# Altium integrated library Dallas Peripheral Real Time Clock.IntLib: 145 symbols (part 1 of 3)
Pins are listed as number, name and electrical type; pins without a type are passive.

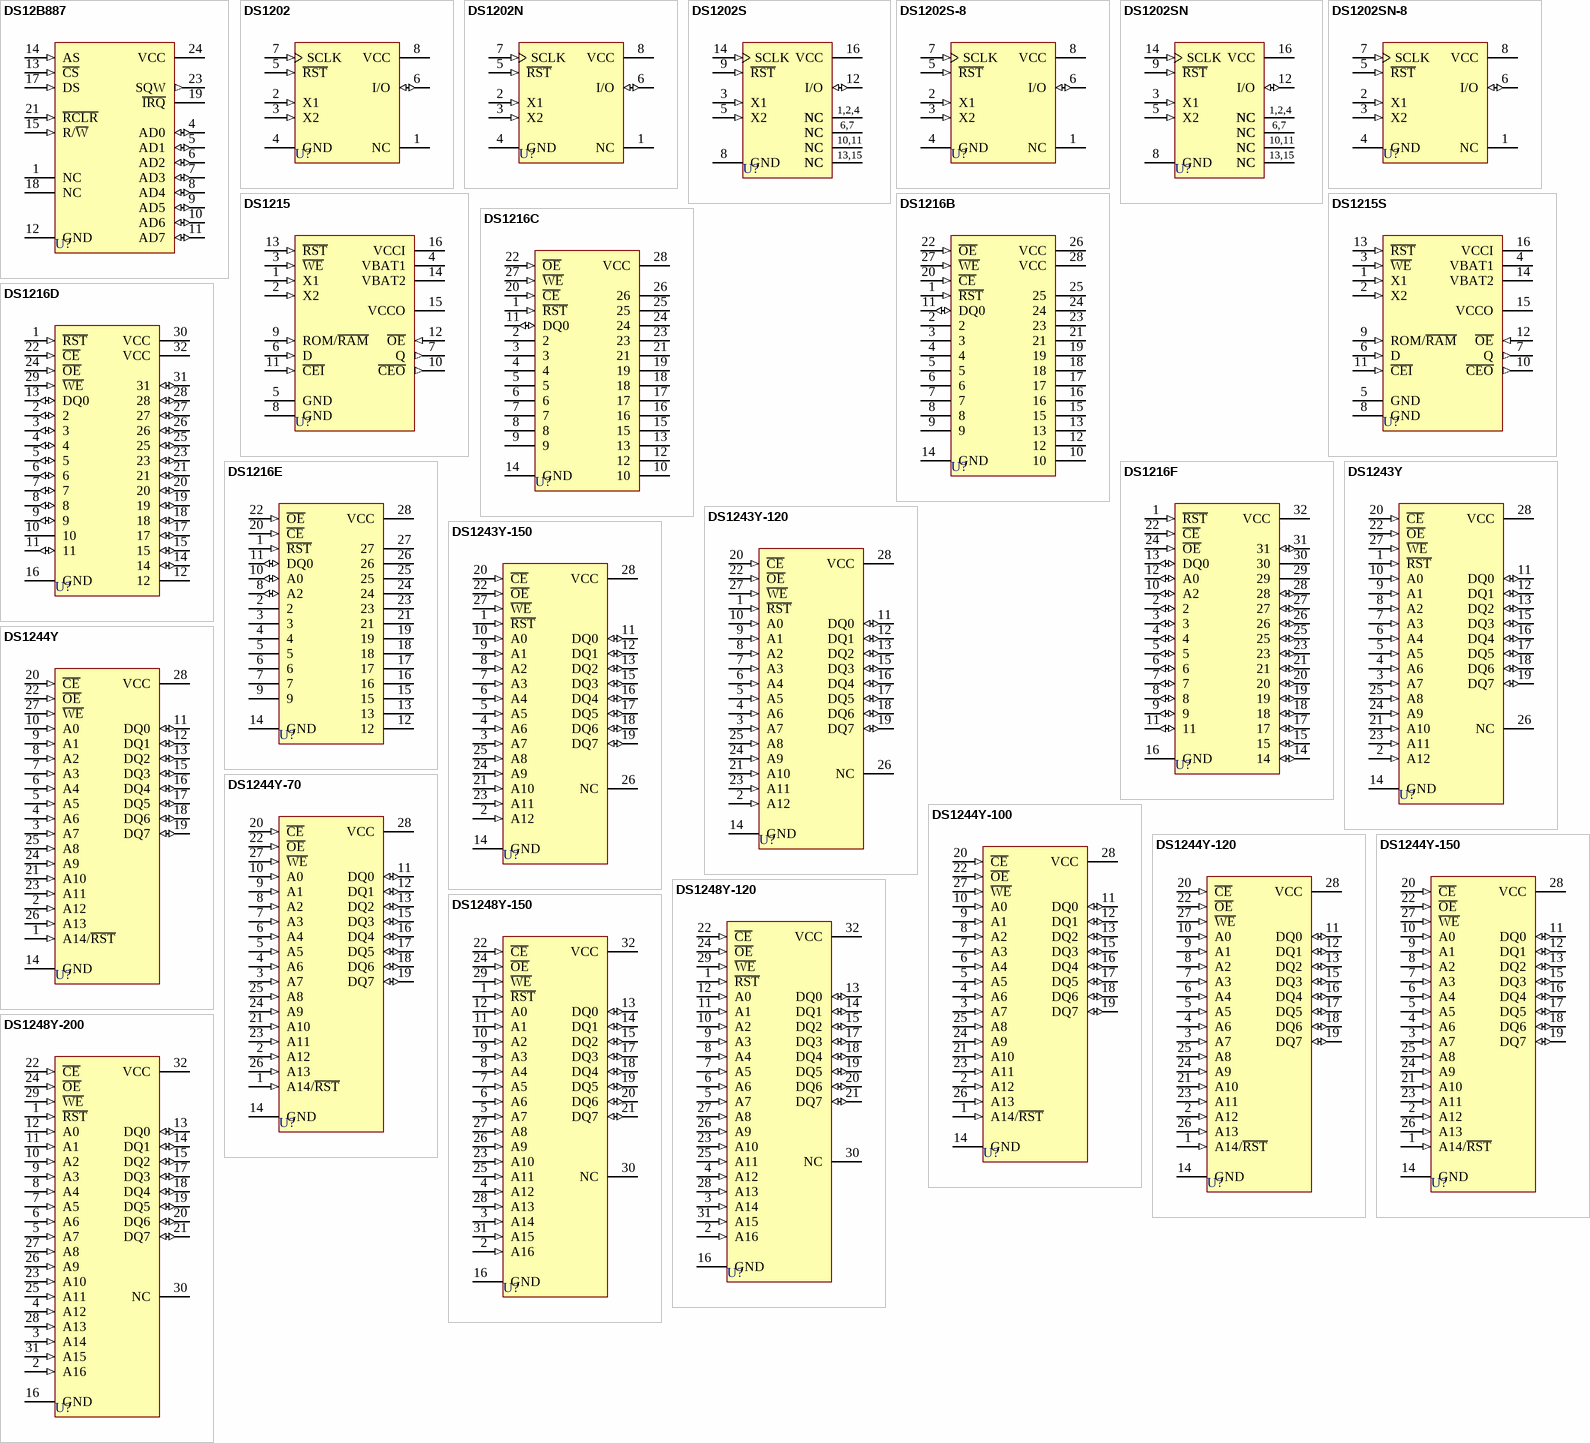
[diagram p0: symbols DS12B887 to DS1248Y-200]

## DS12B887
designator U?
Real-Time Clock; Note: Pin numbers 1, 2, 3, 16, 18, 20 and 22 are Not Connected (NC); Published: 13-Oct-2000; LatestRevisionDate: 17-Jul-2002; LatestRevisionNote: Re-released for DXP Platform.; DatasheetDocument: 8-Aug-1995; PackageReference: ENDIP24F; Publisher: Altium Limited; ComponentLink1Description: Manufacturer Link; ComponentLink1URL: http://www.maxim-ic.com/
footprint ENDIP24F (DIP; 24 Rectangular pins (5 Absent); Row Space 15.24 mm; Pitch 2.54 mm)
pins: 1 NC, 4 AD0 (io), 5 AD1 (io), 6 AD2 (io), 7 AD3 (io), 8 AD4 (io), 9 AD5 (io), 10 AD6 (io), 11 AD7 (io), 12 GND (power), 13 ~{CS} (in), 14 AS (in), 15 R/~{W} (in), 17 DS (in), 18 NC, 19 ~{IRQ} (oc), 21 ~{RCLR} (in), 23 SQW (out), 24 VCC (power)

## DS1202
designator U?
Serial Timekeeping Chip; PackageDocument: 1999; Note: Pin number 2 is Not Connected (NC); ComponentAvailability: Obsolete; Published: 13-Oct-2000; LatestRevisionDate: 06-Jun-2005; LatestRevisionNote: Stylized 3D Model Added.; DatasheetDocument: 8-May-1998; PackageReference: DIP8; Publisher: Altium Limited; ComponentLink1Description: Manufacturer Link; ComponentLink1URL: http://www.maxim-ic.com/
footprint DIP8 (DIP; 8 Leads; Row Spacing 7.62 mm; Pitch 2.54 mm)
3D model DIP8 (DIP; 8 Leads; Row Spacing 7.62 mm; Pitch 2.54 mm)
pins: 1 NC, 2 X1 (in), 3 X2 (in), 4 GND (power), 5 ~{RST} (in), 6 I/O (io), 7 SCLK (in), 8 VCC (power)

## DS1202N
designator U?
Serial Timekeeping Chip; PackageDocument: 1999; Note: Pin number 2 is Not Connected (NC); ComponentAvailability: Obsolete; Published: 13-Oct-2000; LatestRevisionDate: 06-Jun-2005; LatestRevisionNote: Stylized 3D Model Added.; DatasheetDocument: 8-May-1998; PackageReference: DIP8; Publisher: Altium Limited; ComponentLink1Description: Manufacturer Link; ComponentLink1URL: http://www.maxim-ic.com/
footprint DIP8 (DIP; 8 Leads; Row Spacing 7.62 mm; Pitch 2.54 mm)
3D model DIP8 (DIP; 8 Leads; Row Spacing 7.62 mm; Pitch 2.54 mm)
pins: 1 NC, 2 X1 (in), 3 X2 (in), 4 GND (power), 5 ~{RST} (in), 6 I/O (io), 7 SCLK (in), 8 VCC (power)

## DS1202S
designator U?
Serial Timekeeping Chip; Note: Pin numbers 1, 2, 4, 6, 7, 10, 11, 13, 15 and 16 are Not Connected (NC); ComponentAvailability: Obsolete; Published: 13-Oct-2000; LatestRevisionDate: 06-Jun-2005; LatestRevisionNote: Stylized 3D Model Added.; DatasheetDocument: 8-May-1998; PackageDocument: May-1998; PackageReference: SOIC16WB; Publisher: Altium Limited; ComponentLink1Description: Manufacturer Link; ComponentLink1URL: http://www.maxim-ic.com/
footprint SOIC16WB (Small Outline; 16 Leads; Body Width 7.5 mm; Pitch 1.27 mm)
3D model SOIC16WB (Small Outline; 16 Leads; Body Width 7.5 mm; Pitch 1.27 mm)
pins: 1 NC, 2 NC, 3 X1 (in), 4 NC, 5 X2 (in), 6 NC, 7 NC, 8 GND (power), 9 ~{RST} (in), 10 NC, 11 NC, 12 I/O (io), 13 NC, 14 SCLK (in), 15 NC, 16 VCC (power)
text: 1,2,4; 6,7; 10,11; 13,15

## DS1202S-8
designator U?
Serial Timekeeping Chip; PackageDocument: 1994; Note: Pin number 2 is Not Connected (NC); ComponentAvailability: Obsolete; Published: 13-Oct-2000; LatestRevisionDate: 06-Jun-2005; LatestRevisionNote: Stylized 3D Model Added.; DatasheetDocument: 8-May-1998; PackageReference: SOIC8WA; Publisher: Altium Limited; ComponentLink1Description: Manufacturer Link; ComponentLink1URL: http://www.maxim-ic.com/
footprint SOIC8WA (Small Outline; 8 Leads; Body Width 5.3 mm; Pitch 1.27 mm)
3D model SOIC8WA (Small Outline; 8 Leads; Body Width 5.3 mm; Pitch 1.27 mm)
pins: 1 NC, 2 X1 (in), 3 X2 (in), 4 GND (power), 5 ~{RST} (in), 6 I/O (io), 7 SCLK (in), 8 VCC (power)

## DS1202SN
designator U?
Serial Timekeeping Chip; Note: Pin numbers 1, 2, 4, 6, 7, 10, 11, 13, 15 and 16 are Not Connected (NC); ComponentAvailability: Obsolete; Published: 13-Oct-2000; LatestRevisionDate: 06-Jun-2005; LatestRevisionNote: Stylized 3D Model Added.; DatasheetDocument: 8-May-1998; PackageDocument: May-1998; PackageReference: SOIC16WB; Publisher: Altium Limited; ComponentLink1Description: Manufacturer Link; ComponentLink1URL: http://www.maxim-ic.com/
footprint SOIC16WB (Small Outline; 16 Leads; Body Width 7.5 mm; Pitch 1.27 mm)
3D model SOIC16WB (Small Outline; 16 Leads; Body Width 7.5 mm; Pitch 1.27 mm)
pins: 1 NC, 2 NC, 3 X1 (in), 4 NC, 5 X2 (in), 6 NC, 7 NC, 8 GND (power), 9 ~{RST} (in), 10 NC, 11 NC, 12 I/O (io), 13 NC, 14 SCLK (in), 15 NC, 16 VCC (power)
text: 1,2,4; 6,7; 10,11; 13,15

## DS1202SN-8
designator U?
Serial Timekeeping Chip; PackageDocument: 1994; Note: Pin number 2 is Not Connected (NC); ComponentAvailability: Obsolete; Published: 13-Oct-2000; LatestRevisionDate: 06-Jun-2005; LatestRevisionNote: Stylized 3D Model Added.; DatasheetDocument: 8-May-1998; PackageReference: SOIC8WA; Publisher: Altium Limited; ComponentLink1Description: Manufacturer Link; ComponentLink1URL: http://www.maxim-ic.com/
footprint SOIC8WA (Small Outline; 8 Leads; Body Width 5.3 mm; Pitch 1.27 mm)
3D model SOIC8WA (Small Outline; 8 Leads; Body Width 5.3 mm; Pitch 1.27 mm)
pins: 1 NC, 2 X1 (in), 3 X2 (in), 4 GND (power), 5 ~{RST} (in), 6 I/O (io), 7 SCLK (in), 8 VCC (power)

## DS1215
designator U?
Phantom Time Chip; PackageDocument: 1999; Published: 13-Oct-2000; LatestRevisionDate: 06-Jun-2005; LatestRevisionNote: Stylized 3D Model Added.; DatasheetDocument: 8-May-1998; PackageReference: DIP16; Publisher: Altium Limited; ComponentLink1Description: Manufacturer Link; ComponentLink1URL: http://www.maxim-ic.com/
footprint DIP16 (DIP; 16 Leads; Row Spacing 7.62 mm; Pitch 2.54 mm)
3D model DIP16 (DIP; 16 Leads; Row Spacing 7.62 mm; Pitch 2.54 mm)
pins: 1 X1 (in), 2 X2 (in), 3 ~{WE} (in), 4 VBAT1 (power), 5 GND (power), 6 D (in), 7 Q (out), 8 GND (power), 9 ROM/~{RAM} (in), 10 ~{CEO} (out), 11 ~{CEI} (in), 12 ~{OE} (in), 13 ~{RST} (in), 14 VBAT2 (power), 15 VCCO (power), 16 VCCI (power)

## DS1215S
designator U?
Phantom Time Chip; PackageDocument: 1994; Published: 13-Oct-2000; LatestRevisionDate: 06-Jun-2005; LatestRevisionNote: Stylized 3D Model Added.; DatasheetDocument: 8-May-1998; PackageReference: SOIC16WA; Publisher: Altium Limited; ComponentLink1Description: Manufacturer Link; ComponentLink1URL: http://www.maxim-ic.com/
footprint SOIC16WA (Small Outline; 16 Leads; Body Width 7.5 mm; Pitch 1.27 mm)
3D model SOIC16WA (Small Outline; 16 Leads; Body Width 7.5 mm; Pitch 1.27 mm)
pins: 1 X1 (in), 2 X2 (in), 3 ~{WE} (in), 4 VBAT1 (power), 5 GND (power), 6 D (in), 7 Q (out), 8 GND (power), 9 ROM/~{RAM} (in), 10 ~{CEO} (out), 11 ~{CEI} (in), 12 ~{OE} (in), 13 ~{RST} (in), 14 VBAT2 (power), 15 VCCO (power), 16 VCCI (power)

## DS1216B
designator U?
Smart-Watch/RAM 16K/64K; Published: 13-Oct-2000; LatestRevisionDate: 17-Jul-2002; LatestRevisionNote: Re-released for DXP Platform.; DatasheetDocument: 8-Jul-1999; PackageReference: ISDIP28A; Publisher: Altium Limited; ComponentLink1Description: Manufacturer Link; ComponentLink1URL: http://www.maxim-ic.com/; ComponentLink2Description: Datasheet; ComponentLink2URL: http://pdfserv.maxim-ic.com/en/ds/DS1216-DS1216H.pdf
footprint ISDIP28A (DIP; 28 Rectangular Pins; Row Space 15.24 mm; Pitch 2.54 mm)
pins: 1 ~{RST} (in), 2, 3, 4, 5, 6, 7, 8, 9, 10, 11 DQ0 (io), 12, 13, 14 GND (power), 15, 16, 17, 18, 19, 20 ~{CE} (in), 21, 22 ~{OE} (in), 23, 24, 25, 26 VCC (power), 27 ~{WE} (in), 28 VCC (power)

## DS1216C
designator U?
Smart-Watch/RAM 64K/256K; Published: 13-Oct-2000; LatestRevisionDate: 17-Jul-2002; LatestRevisionNote: Re-released for DXP Platform.; DatasheetDocument: 18-Mar-1999; PackageReference: ISDIP28A; Publisher: Altium Limited; ComponentLink1Description: Manufacturer Link; ComponentLink1URL: http://www.maxim-ic.com/; ComponentLink2Description: Datasheet; ComponentLink2URL: http://pdfserv.maxim-ic.com/en/ds/DS1216-DS1216H.pdf
footprint ISDIP28A (DIP; 28 Rectangular Pins; Row Space 15.24 mm; Pitch 2.54 mm)
pins: 1 ~{RST} (in), 2, 3, 4, 5, 6, 7, 8, 9, 10, 11 DQ0 (io), 12, 13, 14 GND (power), 15, 16, 17, 18, 19, 20 ~{CE} (in), 21, 22 ~{OE} (in), 23, 24, 25, 26 (power), 27 ~{WE} (in), 28 VCC (power)

## DS1216D
designator U?
Smart-Watch/RAM 256K/1M; Published: 13-Oct-2000; LatestRevisionDate: 17-Jul-2002; LatestRevisionNote: Re-released for DXP Platform.; DatasheetDocument: 27-Oct-1999; PackageDocument: Mar-1998; PackageReference: ISDIP32; Publisher: Altium Limited; ComponentLink1Description: Manufacturer Link; ComponentLink1URL: http://www.maxim-ic.com/; ComponentLink2Description: Datasheet; ComponentLink2URL: http://pdfserv.maxim-ic.com/en/ds/DS1216-DS1216H.pdf
footprint ISDIP32 (DIP; 32 Rectangular Pins; Row Space 15.24 mm; Pitch 2.54 mm)
pins: 1 ~{RST} (in), 2 (io), 3 (io), 4 (io), 5 (io), 6 (io), 7 (io), 8 (io), 9 (io), 10, 11 (io), 12, 13 DQ0 (io), 14 (io), 15 (io), 16 GND (power), 17 (io), 18 (io), 19 (io), 20 (io), 21 (io), 22 ~{CE} (in), 23 (io), 24 ~{OE} (in), 25 (io), 26 (io), 27 (io), 28 (io), 29 ~{WE} (in), 30 VCC (power), 31 (io), 32 VCC (power)

## DS1216E
designator U?
Smart-Watch/ROM 64K/256K; Published: 13-Oct-2000; LatestRevisionDate: 17-Jul-2002; LatestRevisionNote: Re-released for DXP Platform.; DatasheetDocument: 30-Jul-1999; PackageReference: ISDIP28A; Publisher: Altium Limited; ComponentLink1Description: Manufacturer Link; ComponentLink1URL: http://www.maxim-ic.com/; ComponentLink2Description: Datasheet; ComponentLink2URL: http://pdfserv.maxim-ic.com/en/ds/DS1216-DS1216H.pdf
footprint ISDIP28A (DIP; 28 Rectangular Pins; Row Space 15.24 mm; Pitch 2.54 mm)
pins: 1 ~{RST} (in), 2, 3, 4, 5, 6, 7, 8 A2 (io), 9, 10 A0 (io), 11 DQ0 (io), 12, 13, 14 GND (power), 15, 16, 17, 18, 19, 20 ~{CE} (in), 21, 22 ~{OE} (in), 23, 24, 25, 26 (power), 27, 28 VCC (power)

## DS1216F
designator U?
Smart-Watch/ROM 64K/256K/1M; Published: 13-Oct-2000; LatestRevisionDate: 17-Jul-2002; LatestRevisionNote: Re-released for DXP Platform.; DatasheetDocument: 10-Aug-1999; PackageDocument: Mar-1998; PackageReference: ISDIP32; Publisher: Altium Limited; ComponentLink1Description: Manufacturer Link; ComponentLink1URL: http://www.maxim-ic.com/; ComponentLink2Description: Datasheet; ComponentLink2URL: http://pdfserv.maxim-ic.com/en/ds/DS1216-DS1216H.pdf
footprint ISDIP32 (DIP; 32 Rectangular Pins; Row Space 15.24 mm; Pitch 2.54 mm)
pins: 1 ~{RST} (in), 2 (io), 3 (io), 4 (io), 5 (io), 6 (io), 7 (io), 8 (io), 9 (io), 10 A2 (io), 11 (io), 12 A0 (io), 13 DQ0 (io), 14 (io), 15 (io), 16 GND (power), 17 (io), 18 (io), 19 (io), 20 (io), 21 (io), 22 ~{CE} (in), 23 (io), 24 ~{OE} (in), 25 (io), 26 (io), 27 (io), 28 (io), 29, 30, 31 (io), 32 VCC (power)

## DS1243Y
designator U?
64K Nonvolatile SRAM with Phantom Clock; Published: 13-Oct-2000; LatestRevisionDate: 17-Jul-2002; LatestRevisionNote: PCB footprint, 'DIP-P28/Y1.2' replaced; Re-released for DXP Platform.; DatasheetDocument: 2-Aug-1999; PackageReference: ENDIP28; Publisher: Altium Limited; ComponentLink1Description: Manufacturer Link; ComponentLink1URL: http://www.maxim-ic.com/; ComponentLink2Description: Datasheet; ComponentLink2URL: http://pdfserv.maxim-ic.com/en/ds/DS1233M.pdf; ComponentLink3Description: Discontinuation Notice; ComponentLink3URL: http://www.maxim-ic.com/qa/pdfs/non-obsolescence-letter.pdf
footprint ENDIP28 (DIP; 28 Rectangular Pins; Row Space 15.24 mm; Pitch 2.54 mm)
pins: 1 ~{RST} (in), 2 A12 (in), 3 A7 (in), 4 A6 (in), 5 A5 (in), 6 A4 (in), 7 A3 (in), 8 A2 (in), 9 A1 (in), 10 A0 (in), 11 DQ0 (io), 12 DQ1 (io), 13 DQ2 (io), 14 GND (power), 15 DQ3 (io), 16 DQ4 (io), 17 DQ5 (io), 18 DQ6 (io), 19 DQ7 (io), 20 ~{CE} (in), 21 A10 (in), 22 ~{OE} (in), 23 A11 (in), 24 A9 (in), 25 A8 (in), 26 NC, 27 ~{WE} (in), 28 VCC (power)

## DS1243Y-120
designator U?
64K Nonvolatile SRAM with Phantom Clock; Published: 13-Oct-2000; LatestRevisionDate: 17-Jul-2002; LatestRevisionNote: PCB footprint, 'DIP-P28/Y1.2' replaced; Re-released for DXP Platform.; DatasheetDocument: 2-Aug-1999; PackageReference: ENDIP28; Publisher: Altium Limited; ComponentLink1Description: Manufacturer Link; ComponentLink1URL: http://www.maxim-ic.com/; ComponentLink2Description: Datasheet; ComponentLink2URL: http://pdfserv.maxim-ic.com/en/ds/DS1233M.pdf; ComponentLink3Description: Discontinuation Notice; ComponentLink3URL: http://www.maxim-ic.com/qa/pdfs/non-obsolescence-letter.pdf
footprint ENDIP28 (DIP; 28 Rectangular Pins; Row Space 15.24 mm; Pitch 2.54 mm)
pins: 1 ~{RST} (in), 2 A12 (in), 3 A7 (in), 4 A6 (in), 5 A5 (in), 6 A4 (in), 7 A3 (in), 8 A2 (in), 9 A1 (in), 10 A0 (in), 11 DQ0 (io), 12 DQ1 (io), 13 DQ2 (io), 14 GND (power), 15 DQ3 (io), 16 DQ4 (io), 17 DQ5 (io), 18 DQ6 (io), 19 DQ7 (io), 20 ~{CE} (in), 21 A10 (in), 22 ~{OE} (in), 23 A11 (in), 24 A9 (in), 25 A8 (in), 26 NC, 27 ~{WE} (in), 28 VCC (power)

## DS1243Y-150
designator U?
64K Nonvolatile SRAM with Phantom Clock; Published: 13-Oct-2000; LatestRevisionDate: 17-Jul-2002; LatestRevisionNote: PCB footprint, 'DIP-P28/Y1.2' replaced; Re-released for DXP Platform.; DatasheetDocument: 2-Aug-1999; PackageReference: ENDIP28; Publisher: Altium Limited; ComponentLink1Description: Manufacturer Link; ComponentLink1URL: http://www.maxim-ic.com/; ComponentLink2Description: Datasheet; ComponentLink2URL: http://pdfserv.maxim-ic.com/en/ds/DS1243-DS1243Y.pdf; ComponentLink3Description: Discontinuation Notice; ComponentLink3URL: http://www.maxim-ic.com/qa/pdfs/non-obsolescence-letter.pdf
footprint ENDIP28 (DIP; 28 Rectangular Pins; Row Space 15.24 mm; Pitch 2.54 mm)
pins: 1 ~{RST} (in), 2 A12 (in), 3 A7 (in), 4 A6 (in), 5 A5 (in), 6 A4 (in), 7 A3 (in), 8 A2 (in), 9 A1 (in), 10 A0 (in), 11 DQ0 (io), 12 DQ1 (io), 13 DQ2 (io), 14 GND (power), 15 DQ3 (io), 16 DQ4 (io), 17 DQ5 (io), 18 DQ6 (io), 19 DQ7 (io), 20 ~{CE} (in), 21 A10 (in), 22 ~{OE} (in), 23 A11 (in), 24 A9 (in), 25 A8 (in), 26 NC, 27 ~{WE} (in), 28 VCC (power)

## DS1244Y
designator U?
256K Nonvolatile SRAM with Phantom Clock; Published: 13-Oct-2000; LatestRevisionDate: 17-Jul-2002; LatestRevisionNote: PCB footprint, 'DIP-P28/Y1.2' replaced; Re-released for DXP Platform.; DatasheetDocument: 10-Aug-1999; PackageReference: ENDIP28C; Publisher: Altium Limited; ComponentLink1Description: Manufacturer Link; ComponentLink1URL: http://www.maxim-ic.com/; ComponentLink2Description: Datasheet; ComponentLink2URL: http://pdfserv.maxim-ic.com/en/ds/DS1233M.pdf
footprint ENDIP28C (DIP; 28 Rectangular Pins; Row Space 15.24 mm; Pitch 2.54 mm)
pins: 1 A14/~{RST} (in), 2 A12 (in), 3 A7 (in), 4 A6 (in), 5 A5 (in), 6 A4 (in), 7 A3 (in), 8 A2 (in), 9 A1 (in), 10 A0 (in), 11 DQ0 (io), 12 DQ1 (io), 13 DQ2 (io), 14 GND (power), 15 DQ3 (io), 16 DQ4 (io), 17 DQ5 (io), 18 DQ6 (io), 19 DQ7 (io), 20 ~{CE} (in), 21 A10 (in), 22 ~{OE} (in), 23 A11 (in), 24 A9 (in), 25 A8 (in), 26 A13 (in), 27 ~{WE} (in), 28 VCC (power)

## DS1244Y-70
designator U?
256K Nonvolatile SRAM with Phantom Clock; Published: 13-Oct-2000; LatestRevisionDate: 17-Jul-2002; LatestRevisionNote: PCB footprint, 'DIP-P28/Y1.2' replaced; Re-released for DXP Platform.; DatasheetDocument: 11-Dec-1998; PackageReference: ENDIP28C; Publisher: Altium Limited; ComponentLink1Description: Manufacturer Link; ComponentLink1URL: http://www.maxim-ic.com/; ComponentLink2Description: Datasheet; ComponentLink2URL: http://pdfserv.maxim-ic.com/en/ds/DS1244-DS1244P.pdf
footprint ENDIP28C (DIP; 28 Rectangular Pins; Row Space 15.24 mm; Pitch 2.54 mm)
pins: 1 A14/~{RST} (in), 2 A12 (in), 3 A7 (in), 4 A6 (in), 5 A5 (in), 6 A4 (in), 7 A3 (in), 8 A2 (in), 9 A1 (in), 10 A0 (in), 11 DQ0 (io), 12 DQ1 (io), 13 DQ2 (io), 14 GND (power), 15 DQ3 (io), 16 DQ4 (io), 17 DQ5 (io), 18 DQ6 (io), 19 DQ7 (io), 20 ~{CE} (in), 21 A10 (in), 22 ~{OE} (in), 23 A11 (in), 24 A9 (in), 25 A8 (in), 26 A13 (in), 27 ~{WE} (in), 28 VCC (power)

## DS1244Y-100
designator U?
256K Nonvolatile SRAM with Phantom Clock; Published: 13-Oct-2000; LatestRevisionDate: 17-Jul-2002; LatestRevisionNote: PCB footprint, 'DIP-P28/Y1.2' replaced; Re-released for DXP Platform.; DatasheetDocument: 11-Dec-1998; PackageReference: ENDIP28C; Publisher: Altium Limited; ComponentLink1Description: Manufacturer Link; ComponentLink1URL: http://www.maxim-ic.com/; ComponentLink2Description: Datasheet; ComponentLink2URL: http://pdfserv.maxim-ic.com/en/ds/DS1233M.pdf
footprint ENDIP28C (DIP; 28 Rectangular Pins; Row Space 15.24 mm; Pitch 2.54 mm)
pins: 1 A14/~{RST} (in), 2 A12 (in), 3 A7 (in), 4 A6 (in), 5 A5 (in), 6 A4 (in), 7 A3 (in), 8 A2 (in), 9 A1 (in), 10 A0 (in), 11 DQ0 (io), 12 DQ1 (io), 13 DQ2 (io), 14 GND (power), 15 DQ3 (io), 16 DQ4 (io), 17 DQ5 (io), 18 DQ6 (io), 19 DQ7 (io), 20 ~{CE} (in), 21 A10 (in), 22 ~{OE} (in), 23 A11 (in), 24 A9 (in), 25 A8 (in), 26 A13 (in), 27 ~{WE} (in), 28 VCC (power)

## DS1244Y-120
designator U?
256K Nonvolatile SRAM with Phantom Clock; Published: 13-Oct-2000; LatestRevisionDate: 17-Jul-2002; LatestRevisionNote: PCB footprint, 'DIP-P28/Y1.2' replaced; Re-released for DXP Platform.; DatasheetDocument: 10-Aug-1999; PackageReference: ENDIP28C; Publisher: Altium Limited; ComponentLink1Description: Manufacturer Link; ComponentLink1URL: http://www.maxim-ic.com/; ComponentLink2Description: Datasheet; ComponentLink2URL: http://pdfserv.maxim-ic.com/en/ds/DS1233M.pdf
footprint ENDIP28C (DIP; 28 Rectangular Pins; Row Space 15.24 mm; Pitch 2.54 mm)
pins: 1 A14/~{RST} (in), 2 A12 (in), 3 A7 (in), 4 A6 (in), 5 A5 (in), 6 A4 (in), 7 A3 (in), 8 A2 (in), 9 A1 (in), 10 A0 (in), 11 DQ0 (io), 12 DQ1 (io), 13 DQ2 (io), 14 GND (power), 15 DQ3 (io), 16 DQ4 (io), 17 DQ5 (io), 18 DQ6 (io), 19 DQ7 (io), 20 ~{CE} (in), 21 A10 (in), 22 ~{OE} (in), 23 A11 (in), 24 A9 (in), 25 A8 (in), 26 A13 (in), 27 ~{WE} (in), 28 VCC (power)

## DS1244Y-150
designator U?
256K Nonvolatile SRAM with Phantom Clock; Published: 13-Oct-2000; LatestRevisionDate: 17-Jul-2002; LatestRevisionNote: PCB footprint, 'DIP-P28/Y1.2' replaced; Re-released for DXP Platform.; DatasheetDocument: 10-Aug-1999; PackageReference: ENDIP28C; Publisher: Altium Limited; ComponentLink1Description: Manufacturer Link; ComponentLink1URL: http://www.maxim-ic.com/; ComponentLink2Description: Datasheet; ComponentLink2URL: http://pdfserv.maxim-ic.com/en/ds/DS1244-DS1244P.pdf
footprint ENDIP28C (DIP; 28 Rectangular Pins; Row Space 15.24 mm; Pitch 2.54 mm)
pins: 1 A14/~{RST} (in), 2 A12 (in), 3 A7 (in), 4 A6 (in), 5 A5 (in), 6 A4 (in), 7 A3 (in), 8 A2 (in), 9 A1 (in), 10 A0 (in), 11 DQ0 (io), 12 DQ1 (io), 13 DQ2 (io), 14 GND (power), 15 DQ3 (io), 16 DQ4 (io), 17 DQ5 (io), 18 DQ6 (io), 19 DQ7 (io), 20 ~{CE} (in), 21 A10 (in), 22 ~{OE} (in), 23 A11 (in), 24 A9 (in), 25 A8 (in), 26 A13 (in), 27 ~{WE} (in), 28 VCC (power)

## DS1248Y-120
designator U?
1024K Nonvolatile SRAM with Phantom Clock; Note: Pin number 1 is Not Connected (NC); Published: 13-Oct-2000; LatestRevisionDate: 17-Jul-2002; LatestRevisionNote: PCB footprint, 'DIP-P32/Y1.2' replaced; Re-released for DXP Platform.; DatasheetDocument: 27-Jul-1999; PackageReference: ENDIP32A; Publisher: Altium Limited; ComponentLink1Description: Manufacturer Link; ComponentLink1URL: http://www.maxim-ic.com/; ComponentLink2Description: Datasheet; ComponentLink2URL: http://pdfserv.maxim-ic.com/en/ds/DS1233M.pdf; ComponentLink3Description: Discontinuation Notice; ComponentLink3URL: http://www.maxim-ic.com/qa/pdfs/non-obsolescence-letter.pdf
footprint ENDIP32A (DIP; 32 Rectangular Pins; Row Space 15.24 mm; Pitch 2.54 mm)
pins: 1 ~{RST} (in), 2 A16 (in), 3 A14 (in), 4 A12 (in), 5 A7 (in), 6 A6 (in), 7 A5 (in), 8 A4 (in), 9 A3 (in), 10 A2 (in), 11 A1 (in), 12 A0 (in), 13 DQ0 (io), 14 DQ1 (io), 15 DQ2 (io), 16 GND (power), 17 DQ3 (io), 18 DQ4 (io), 19 DQ5 (io), 20 DQ6 (io), 21 DQ7 (io), 22 ~{CE} (in), 23 A10 (in), 24 ~{OE} (in), 25 A11 (in), 26 A9 (in), 27 A8 (in), 28 A13 (in), 29 ~{WE} (in), 30 NC, 31 A15 (in), 32 VCC (power)

## DS1248Y-150
designator U?
1024K Nonvolatile SRAM with Phantom Clock; Note: Pin number 1 is Not Connected (NC); Published: 13-Oct-2000; LatestRevisionDate: 17-Jul-2002; LatestRevisionNote: PCB footprint, 'DIP-P32/Y1.2' replaced; Re-released for DXP Platform.; DatasheetDocument: 27-Jul-1999; PackageReference: ENDIP32A; Publisher: Altium Limited; ComponentLink1Description: Manufacturer Link; ComponentLink1URL: http://www.maxim-ic.com/; ComponentLink2Description: Datasheet; ComponentLink2URL: http://pdfserv.maxim-ic.com/en/ds/DS1233M.pdf; ComponentLink3Description: Discontinuation Notice; ComponentLink3URL: http://www.maxim-ic.com/qa/pdfs/non-obsolescence-letter.pdf
footprint ENDIP32A (DIP; 32 Rectangular Pins; Row Space 15.24 mm; Pitch 2.54 mm)
pins: 1 ~{RST} (in), 2 A16 (in), 3 A14 (in), 4 A12 (in), 5 A7 (in), 6 A6 (in), 7 A5 (in), 8 A4 (in), 9 A3 (in), 10 A2 (in), 11 A1 (in), 12 A0 (in), 13 DQ0 (io), 14 DQ1 (io), 15 DQ2 (io), 16 GND (power), 17 DQ3 (io), 18 DQ4 (io), 19 DQ5 (io), 20 DQ6 (io), 21 DQ7 (io), 22 ~{CE} (in), 23 A10 (in), 24 ~{OE} (in), 25 A11 (in), 26 A9 (in), 27 A8 (in), 28 A13 (in), 29 ~{WE} (in), 30 NC, 31 A15 (in), 32 VCC (power)

## DS1248Y-200
designator U?
1024K Nonvolatile SRAM with Phantom Clock; Note: Pin number 1 is Not Connected (NC); Published: 13-Oct-2000; LatestRevisionDate: 17-Jul-2002; LatestRevisionNote: PCB footprint, 'DIP-P32/Y1.2' replaced; Re-released for DXP Platform.; DatasheetDocument: 27-Jul-1999; PackageReference: ENDIP32A; Publisher: Altium Limited; ComponentLink1Description: Manufacturer Link; ComponentLink1URL: http://www.maxim-ic.com/; ComponentLink2Description: Datasheet; ComponentLink2URL: http://pdfserv.maxim-ic.com/en/ds/DS1248-DS1248P.pdf; ComponentLink3Description: Discontinuation Notice; ComponentLink3URL: http://www.maxim-ic.com/qa/pdfs/non-obsolescence-letter.pdf
footprint ENDIP32A (DIP; 32 Rectangular Pins; Row Space 15.24 mm; Pitch 2.54 mm)
pins: 1 ~{RST} (in), 2 A16 (in), 3 A14 (in), 4 A12 (in), 5 A7 (in), 6 A6 (in), 7 A5 (in), 8 A4 (in), 9 A3 (in), 10 A2 (in), 11 A1 (in), 12 A0 (in), 13 DQ0 (io), 14 DQ1 (io), 15 DQ2 (io), 16 GND (power), 17 DQ3 (io), 18 DQ4 (io), 19 DQ5 (io), 20 DQ6 (io), 21 DQ7 (io), 22 ~{CE} (in), 23 A10 (in), 24 ~{OE} (in), 25 A11 (in), 26 A9 (in), 27 A8 (in), 28 A13 (in), 29 ~{WE} (in), 30 NC, 31 A15 (in), 32 VCC (power)

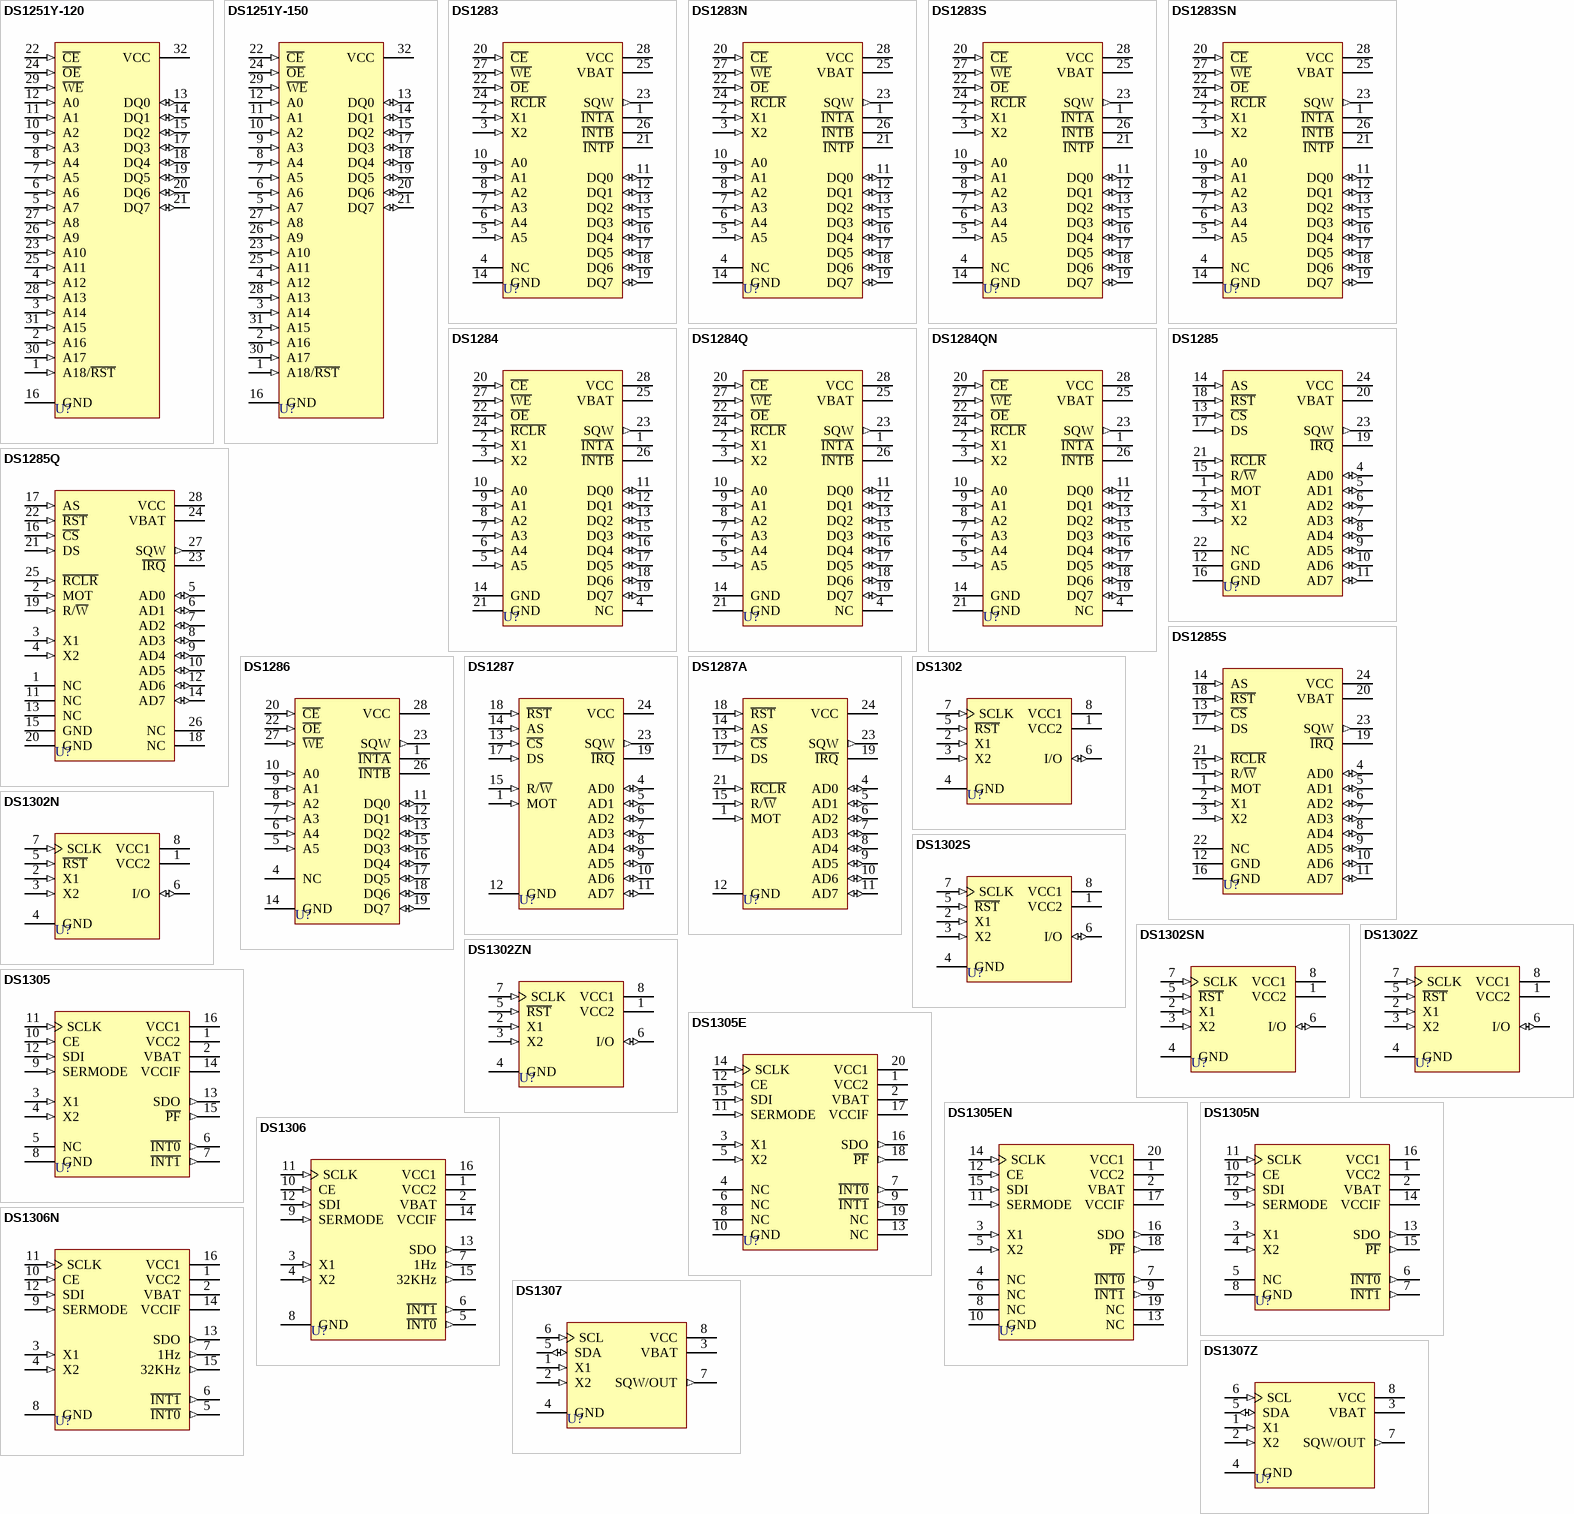
[diagram p1: symbols DS1251Y-120 to DS1307Z]

## DS1251Y-120
designator U?
2096K NV SRAM with Phantom Clock; Published: 13-Oct-2000; LatestRevisionDate: 17-Jul-2002; LatestRevisionNote: PCB footprint, 'DIP-P32/Y1.2' replaced; Re-released for DXP Platform.; DatasheetDocument: 27-Jul-1999; PackageReference: ENDIP32A; Publisher: Altium Limited; ComponentLink1Description: Manufacturer Link; ComponentLink1URL: http://www.maxim-ic.com/; ComponentLink2Description: Datasheet; ComponentLink2URL: http://pdfserv.maxim-ic.com/en/ds/DS1233M.pdf; ComponentLink3Description: Discontinuation Notice; ComponentLink3URL: http://www.maxim-ic.com/qa/pdfs/non-obsolescence-letter.pdf
footprint ENDIP32A (DIP; 32 Rectangular Pins; Row Space 15.24 mm; Pitch 2.54 mm)
pins: 1 A18/~{RST} (in), 2 A16 (in), 3 A14 (in), 4 A12 (in), 5 A7 (in), 6 A6 (in), 7 A5 (in), 8 A4 (in), 9 A3 (in), 10 A2 (in), 11 A1 (in), 12 A0 (in), 13 DQ0 (io), 14 DQ1 (io), 15 DQ2 (io), 16 GND (power), 17 DQ3 (io), 18 DQ4 (io), 19 DQ5 (io), 20 DQ6 (io), 21 DQ7 (io), 22 ~{CE} (in), 23 A10 (in), 24 ~{OE} (in), 25 A11 (in), 26 A9 (in), 27 A8 (in), 28 A13 (in), 29 ~{WE} (in), 30 A17 (in), 31 A15 (in), 32 VCC (power)

## DS1251Y-150
designator U?
2096K NV SRAM with Phantom Clock; Published: 13-Oct-2000; LatestRevisionDate: 17-Jul-2002; LatestRevisionNote: PCB footprint, 'DIP-P32/Y1.2' replaced; Re-released for DXP Platform.; DatasheetDocument: 27-Jul-1999; PackageReference: ENDIP32A; Publisher: Altium Limited; ComponentLink1Description: Manufacturer Link; ComponentLink1URL: http://www.maxim-ic.com/; ComponentLink2Description: Datasheet; ComponentLink2URL: http://pdfserv.maxim-ic.com/en/ds/DS1251-DS1251P.pdf; ComponentLink3Description: Discontinuation Notice; ComponentLink3URL: http://www.maxim-ic.com/qa/pdfs/non-obsolescence-letter.pdf
footprint ENDIP32A (DIP; 32 Rectangular Pins; Row Space 15.24 mm; Pitch 2.54 mm)
pins: 1 A18/~{RST} (in), 2 A16 (in), 3 A14 (in), 4 A12 (in), 5 A7 (in), 6 A6 (in), 7 A5 (in), 8 A4 (in), 9 A3 (in), 10 A2 (in), 11 A1 (in), 12 A0 (in), 13 DQ0 (io), 14 DQ1 (io), 15 DQ2 (io), 16 GND (power), 17 DQ3 (io), 18 DQ4 (io), 19 DQ5 (io), 20 DQ6 (io), 21 DQ7 (io), 22 ~{CE} (in), 23 A10 (in), 24 ~{OE} (in), 25 A11 (in), 26 A9 (in), 27 A8 (in), 28 A13 (in), 29 ~{WE} (in), 30 A17 (in), 31 A15 (in), 32 VCC (power)

## DS1283
designator U?
Watchdog Timekeeper Chip; PackageDocument: 1999; Note: Pin number 4 is Not Connected (NC); Published: 13-Oct-2000; LatestRevisionDate: 06-Jun-2005; LatestRevisionNote: Stylized 3D Model Added.; DatasheetDocument: 27-Feb-1998; PackageReference: DIP28W; Publisher: Altium Limited; ComponentLink1Description: Manufacturer Link; ComponentLink1URL: http://www.maxim-ic.com/; ComponentLink2Description: Discontinuation Notice; ComponentLink2URL: http://www.maxim-ic.com/qa/pdfs/non-obsolescence-letter.pdf
footprint DIP28W (DIP; 28 Leads; Row Spacing 15.24 mm; Pitch 2.54 mm)
3D model DIP28W (DIP; 28 Leads; Row Spacing 15.24 mm; Pitch 2.54 mm)
pins: 1 ~{INTA} (oc), 2 X1 (in), 3 X2 (in), 4 NC, 5 A5 (in), 6 A4 (in), 7 A3 (in), 8 A2 (in), 9 A1 (in), 10 A0 (in), 11 DQ0 (io), 12 DQ1 (io), 13 DQ2 (io), 14 GND (power), 15 DQ3 (io), 16 DQ4 (io), 17 DQ5 (io), 18 DQ6 (io), 19 DQ7 (io), 20 ~{CE} (in), 21 ~{INTP} (oc), 22 ~{OE} (in), 23 SQW (out), 24 ~{RCLR} (in), 25 VBAT (power), 26 ~{INTB} (oc), 27 ~{WE} (in), 28 VCC (power)

## DS1283N
designator U?
Watchdog Timekeeper Chip; PackageDocument: 1999; Note: Pin number 4 is Not Connected (NC); Published: 13-Oct-2000; LatestRevisionDate: 06-Jun-2005; LatestRevisionNote: Stylized 3D Model Added.; DatasheetDocument: 27-Feb-1998; PackageReference: DIP28W; Publisher: Altium Limited; ComponentLink1Description: Manufacturer Link; ComponentLink1URL: http://www.maxim-ic.com/; ComponentLink2Description: Discontinuation Notice; ComponentLink2URL: http://www.maxim-ic.com/qa/pdfs/non-obsolescence-letter.pdf
footprint DIP28W (DIP; 28 Leads; Row Spacing 15.24 mm; Pitch 2.54 mm)
3D model DIP28W (DIP; 28 Leads; Row Spacing 15.24 mm; Pitch 2.54 mm)
pins: 1 ~{INTA} (oc), 2 X1 (in), 3 X2 (in), 4 NC, 5 A5 (in), 6 A4 (in), 7 A3 (in), 8 A2 (in), 9 A1 (in), 10 A0 (in), 11 DQ0 (io), 12 DQ1 (io), 13 DQ2 (io), 14 GND (power), 15 DQ3 (io), 16 DQ4 (io), 17 DQ5 (io), 18 DQ6 (io), 19 DQ7 (io), 20 ~{CE} (in), 21 ~{INTP} (oc), 22 ~{OE} (in), 23 SQW (out), 24 ~{RCLR} (in), 25 VBAT (power), 26 ~{INTB} (oc), 27 ~{WE} (in), 28 VCC (power)

## DS1283S
designator U?
Watchdog Timekeeper Chip; PackageDocument: 1999; Note: Pin number 4 is Not Connected (NC); Published: 13-Oct-2000; LatestRevisionDate: 06-Jun-2005; LatestRevisionNote: Stylized 3D Model Added.; DatasheetDocument: 27-Feb-1998; PackageReference: SOIC28VW; Publisher: Altium Limited; ComponentLink1Description: Manufacturer Link; ComponentLink1URL: http://www.maxim-ic.com/; ComponentLink2Description: Discontinuation Notice; ComponentLink2URL: http://www.maxim-ic.com/qa/pdfs/non-obsolescence-letter.pdf
footprint SOIC28VW (Small Outline; 28 Leads; Body Width 8.7 mm; Pitch 1.27 mm)
3D model SOIC28VW (Small Outline; 28 Leads; Body Width 8.7 mm; Pitch 1.27 mm)
pins: 1 ~{INTA} (oc), 2 X1 (in), 3 X2 (in), 4 NC, 5 A5 (in), 6 A4 (in), 7 A3 (in), 8 A2 (in), 9 A1 (in), 10 A0 (in), 11 DQ0 (io), 12 DQ1 (io), 13 DQ2 (io), 14 GND (power), 15 DQ3 (io), 16 DQ4 (io), 17 DQ5 (io), 18 DQ6 (io), 19 DQ7 (io), 20 ~{CE} (in), 21 ~{INTP} (oc), 22 ~{OE} (in), 23 SQW (out), 24 ~{RCLR} (in), 25 VBAT (power), 26 ~{INTB} (oc), 27 ~{WE} (in), 28 VCC (power)

## DS1283SN
designator U?
Watchdog Timekeeper Chip; PackageDocument: 1999; Note: Pin number 4 is Not Connected (NC); Published: 13-Oct-2000; LatestRevisionDate: 06-Jun-2005; LatestRevisionNote: Stylized 3D Model Added.; DatasheetDocument: 27-Feb-1998; PackageReference: SOIC28VW; Publisher: Altium Limited; ComponentLink1Description: Manufacturer Link; ComponentLink1URL: http://www.maxim-ic.com/; ComponentLink2Description: Discontinuation Notice; ComponentLink2URL: http://www.maxim-ic.com/qa/pdfs/non-obsolescence-letter.pdf
footprint SOIC28VW (Small Outline; 28 Leads; Body Width 8.7 mm; Pitch 1.27 mm)
3D model SOIC28VW (Small Outline; 28 Leads; Body Width 8.7 mm; Pitch 1.27 mm)
pins: 1 ~{INTA} (oc), 2 X1 (in), 3 X2 (in), 4 NC, 5 A5 (in), 6 A4 (in), 7 A3 (in), 8 A2 (in), 9 A1 (in), 10 A0 (in), 11 DQ0 (io), 12 DQ1 (io), 13 DQ2 (io), 14 GND (power), 15 DQ3 (io), 16 DQ4 (io), 17 DQ5 (io), 18 DQ6 (io), 19 DQ7 (io), 20 ~{CE} (in), 21 ~{INTP} (oc), 22 ~{OE} (in), 23 SQW (out), 24 ~{RCLR} (in), 25 VBAT (power), 26 ~{INTB} (oc), 27 ~{WE} (in), 28 VCC (power)

## DS1284
designator U?
Watchdog Timekeeping Chip; PackageDocument: 1999; Note: Pin number 4 is Not Connected (NC); Published: 13-Oct-2000; LatestRevisionDate: 06-Jun-2005; LatestRevisionNote: Stylized 3D Model Added.; DatasheetDocument: 27-Jul-1999; PackageReference: DIP28W; Publisher: Altium Limited; ComponentLink1Description: Manufacturer Link; ComponentLink1URL: http://www.maxim-ic.com/; ComponentLink2Description: Datasheet; ComponentLink2URL: http://pdfserv.maxim-ic.com/en/ds/DS1284.pdf; ComponentLink3Description: Discontinuation Notice; ComponentLink3URL: http://www.maxim-ic.com/qa/pdfs/non-obsolescence-letter.pdf
footprint DIP28W (DIP; 28 Leads; Row Spacing 15.24 mm; Pitch 2.54 mm)
3D model DIP28W (DIP; 28 Leads; Row Spacing 15.24 mm; Pitch 2.54 mm)
pins: 1 ~{INTA} (oc), 2 X1 (in), 3 X2 (in), 4 NC, 5 A5 (in), 6 A4 (in), 7 A3 (in), 8 A2 (in), 9 A1 (in), 10 A0 (in), 11 DQ0 (io), 12 DQ1 (io), 13 DQ2 (io), 14 GND (power), 15 DQ3 (io), 16 DQ4 (io), 17 DQ5 (io), 18 DQ6 (io), 19 DQ7 (io), 20 ~{CE} (in), 21 GND (power), 22 ~{OE} (in), 23 SQW (out), 24 ~{RCLR} (in), 25 VBAT (power), 26 ~{INTB} (oc), 27 ~{WE} (in), 28 VCC (power)

## DS1284Q
designator U?
Watchdog Timekeeping Chip; Note: Pin number 4 is Not Connected (NC); Published: 13-Oct-2000; LatestRevisionDate: 06-Jun-2005; LatestRevisionNote: Stylized 3D Model Added.; DatasheetDocument: 27-Jul-1999; PackageDocument: Jul-1999; PackageReference: PLCC28A; Publisher: Altium Limited; Code_IPC: PLCC-28; ComponentLink1Description: Manufacturer Link; ComponentLink1URL: http://www.maxim-ic.com/; ComponentLink2Description: Datasheet; ComponentLink2URL: http://pdfserv.maxim-ic.com/en/ds/DS1284.pdf; ComponentLink3Description: Discontinuation Notice; ComponentLink3URL: http://www.maxim-ic.com/qa/pdfs/non-obsolescence-letter.pdf
footprint PLCC28A (Leaded Chip Carrier; 28 Leads; Body 11.5 x 11.5 mm)
3D model DS1284-PLCC28A (Leaded Chip Carrier; 28 Leads; Body 11.5 x 11.5 mm)
pins: 1 ~{INTA} (oc), 2 X1 (in), 3 X2 (in), 4 NC, 5 A5 (in), 6 A4 (in), 7 A3 (in), 8 A2 (in), 9 A1 (in), 10 A0 (in), 11 DQ0 (io), 12 DQ1 (io), 13 DQ2 (io), 14 GND (power), 15 DQ3 (io), 16 DQ4 (io), 17 DQ5 (io), 18 DQ6 (io), 19 DQ7 (io), 20 ~{CE} (in), 21 GND (power), 22 ~{OE} (in), 23 SQW (out), 24 ~{RCLR} (in), 25 VBAT (power), 26 ~{INTB} (oc), 27 ~{WE} (in), 28 VCC (power)

## DS1284QN
designator U?
Watchdog Timekeeping Chip; Note: Pin number 4 is Not Connected (NC); Published: 13-Oct-2000; LatestRevisionDate: 06-Jun-2005; LatestRevisionNote: Stylized 3D Model Added.; DatasheetDocument: 27-Jul-1999; PackageDocument: Jul-1999; PackageReference: PLCC28A; Publisher: Altium Limited; Code_IPC: PLCC-28; ComponentLink1Description: Manufacturer Link; ComponentLink1URL: http://www.maxim-ic.com/; ComponentLink2Description: Datasheet; ComponentLink2URL: http://pdfserv.maxim-ic.com/en/ds/DS1284.pdf; ComponentLink3Description: Discontinuation Notice; ComponentLink3URL: http://www.maxim-ic.com/qa/pdfs/non-obsolescence-letter.pdf
footprint PLCC28A (Leaded Chip Carrier; 28 Leads; Body 11.5 x 11.5 mm)
3D model DS1284-PLCC28A (Leaded Chip Carrier; 28 Leads; Body 11.5 x 11.5 mm)
pins: 1 ~{INTA} (oc), 2 X1 (in), 3 X2 (in), 4 NC, 5 A5 (in), 6 A4 (in), 7 A3 (in), 8 A2 (in), 9 A1 (in), 10 A0 (in), 11 DQ0 (io), 12 DQ1 (io), 13 DQ2 (io), 14 GND (power), 15 DQ3 (io), 16 DQ4 (io), 17 DQ5 (io), 18 DQ6 (io), 19 DQ7 (io), 20 ~{CE} (in), 21 GND (power), 22 ~{OE} (in), 23 SQW (out), 24 ~{RCLR} (in), 25 VBAT (power), 26 ~{INTB} (oc), 27 ~{WE} (in), 28 VCC (power)

## DS1285
designator U?
Real-Time Clock; PackageDocument: 1999; Note: Pin number 22 is Not Connected (NC); Published: 13-Oct-2000; LatestRevisionDate: 06-Jun-2005; LatestRevisionNote: Stylized 3D Model Added.; DatasheetDocument: 8-May-1998; PackageReference: DIP24W; Publisher: Altium Limited; ComponentLink1Description: Manufacturer Link; ComponentLink1URL: http://www.maxim-ic.com/
footprint DIP24W (DIP; 24 Leads; Row Spacing 15.24 mm; Pitch 2.54 mm)
3D model DIP24W (DIP; 24 Leads; Row Spacing 15.24 mm; Pitch 2.54 mm)
pins: 1 MOT (in), 2 X1 (in), 3 X2 (in), 4 AD0 (io), 5 AD1 (io), 6 AD2 (io), 7 AD3 (io), 8 AD4 (io), 9 AD5 (io), 10 AD6 (io), 11 AD7 (io), 12 GND (power), 13 ~{CS} (in), 14 AS (in), 15 R/~{W} (in), 16 GND (power), 17 DS (in), 18 ~{RST} (in), 19 ~{IRQ} (oc), 20 VBAT (power), 21 ~{RCLR} (in), 22 NC, 23 SQW (out), 24 VCC (power)

## DS1285Q
designator U?
Real-Time Clock; Note: Pin numbers 1, 11, 13, 18 and 26 are Not Connected (NC); Published: 13-Oct-2000; LatestRevisionDate: 06-Jun-2005; LatestRevisionNote: Stylized 3D Model Added.; DatasheetDocument: 8-May-1998; PackageDocument: Feb-1999; PackageReference: PLCC28; Publisher: Altium Limited; Code_IPC: PLCC-28; ComponentLink1Description: Manufacturer Link; ComponentLink1URL: http://www.maxim-ic.com/
footprint PLCC28 (Leaded Chip Carrier; 28 Leads; Body 11.5 x 11.5 mm)
3D model DS1285-PLCC28 (Leaded Chip Carrier; 28 Leads; Body 11.5 x 11.5 mm)
pins: 1 NC, 2 MOT (in), 3 X1 (in), 4 X2 (in), 5 AD0 (io), 6 AD1 (io), 7 AD2 (io), 8 AD3 (io), 9 AD4 (io), 10 AD5 (io), 11 NC, 12 AD6 (io), 13 NC, 14 AD7 (io), 15 GND (power), 16 ~{CS} (in), 17 AS (in), 18 NC, 19 R/~{W} (in), 20 GND (power), 21 DS (in), 22 ~{RST} (in), 23 ~{IRQ} (oc), 24 VBAT (power), 25 ~{RCLR} (in), 26 NC, 27 SQW (out), 28 VCC (power)

## DS1285S
designator U?
Real-Time Clock; PackageDocument: 1994; Note: Pin number 22 is Not Connected (NC); Published: 13-Oct-2000; LatestRevisionDate: 06-Jun-2005; LatestRevisionNote: Stylized 3D Model Added.; DatasheetDocument: 14-Feb-1992; PackageReference: SOIC24NA; Publisher: Altium Limited; ComponentLink1Description: Manufacturer Link; ComponentLink1URL: http://www.maxim-ic.com/
footprint SOIC24NA (Small Outline; 24 Leads; Body Width 7.5 mm; Pitch 1.27 mm)
3D model SOIC24N (Small Outline; 24 Leads; Body Width 7.5 mm; Pitch 1.27 mm)
pins: 1 MOT (in), 2 X1 (in), 3 X2 (in), 4 AD0 (io), 5 AD1 (io), 6 AD2 (io), 7 AD3 (io), 8 AD4 (io), 9 AD5 (io), 10 AD6 (io), 11 AD7 (io), 12 GND (power), 13 ~{CS} (in), 14 AS (in), 15 R/~{W} (in), 16 GND (power), 17 DS (in), 18 ~{RST} (in), 19 ~{IRQ} (oc), 20 VBAT (power), 21 ~{RCLR} (in), 22 NC, 23 SQW (out), 24 VCC (power)

## DS1286
designator U?
Watchdog Timekeeper; Note: Pin numbers 2, 3, 4, 21, 24 and 25 are Not Connected (NC); Published: 13-Oct-2000; LatestRevisionDate: 17-Jul-2002; LatestRevisionNote: Re-released for DXP Platform.; DatasheetDocument: 27-Feb-1998; PackageReference: ENDIP28K; Publisher: Altium Limited; ComponentLink1Description: Manufacturer Link; ComponentLink1URL: http://www.maxim-ic.com/; ComponentLink2Description: Datasheet; ComponentLink2URL: http://pdfserv.maxim-ic.com/en/ds/DS1284-DS1286.pdf; ComponentLink3Description: Discontinuation Notice; ComponentLink3URL: http://www.maxim-ic.com/qa/pdfs/non-obsolescence-letter.pdf
footprint ENDIP28K (DIP; 28 Rectangular pins (5 Absent); Row Space 15.24 mm; Pitch 2.54 mm)
pins: 1 ~{INTA} (oc), 4 NC, 5 A5 (in), 6 A4 (in), 7 A3 (in), 8 A2 (in), 9 A1 (in), 10 A0 (in), 11 DQ0 (io), 12 DQ1 (io), 13 DQ2 (io), 14 GND (power), 15 DQ3 (io), 16 DQ4 (io), 17 DQ5 (io), 18 DQ6 (io), 19 DQ7 (io), 20 ~{CE} (in), 22 ~{OE} (in), 23 SQW (out), 26 ~{INTB} (oc), 27 ~{WE} (in), 28 VCC (power)

## DS1287
designator U?
Real-Time Clock; Note: Pin numbers 2, 3, 16, 20, 21 and 22 are Not Connected (NC); Published: 13-Oct-2000; LatestRevisionDate: 17-Jul-2002; LatestRevisionNote: Re-released for DXP Platform.; DatasheetDocument: 5-Feb-1992; PackageReference: ENDIP24A; Publisher: Altium Limited; ComponentLink1Description: Manufacturer Link; ComponentLink1URL: http://www.maxim-ic.com/
footprint ENDIP24A (DIP; 24 Rectangular pins (6 Absent); Row Space 15.24 mm; Pitch 2.54 mm)
pins: 1 MOT (in), 4 AD0 (io), 5 AD1 (io), 6 AD2 (io), 7 AD3 (io), 8 AD4 (io), 9 AD5 (io), 10 AD6 (io), 11 AD7 (io), 12 GND (power), 13 ~{CS} (in), 14 AS (in), 15 R/~{W} (in), 17 DS (in), 18 ~{RST} (in), 19 ~{IRQ} (oc), 23 SQW (out), 24 VCC (power)

## DS1287A
designator U?
Real-Time Clock; Note: Pin numbers 2, 3, 16, 20 and 22 are Not Connected (NC); Published: 13-Oct-2000; LatestRevisionDate: 17-Jul-2002; LatestRevisionNote: Re-released for DXP Platform.; DatasheetDocument: 5-Feb-1992; PackageReference: ENDIP24F; Publisher: Altium Limited; ComponentLink1Description: Manufacturer Link; ComponentLink1URL: http://www.maxim-ic.com/
footprint ENDIP24F (DIP; 24 Rectangular pins (5 Absent); Row Space 15.24 mm; Pitch 2.54 mm)
pins: 1 MOT (in), 4 AD0 (io), 5 AD1 (io), 6 AD2 (io), 7 AD3 (io), 8 AD4 (io), 9 AD5 (io), 10 AD6 (io), 11 AD7 (io), 12 GND (power), 13 ~{CS} (in), 14 AS (in), 15 R/~{W} (in), 17 DS (in), 18 ~{RST} (in), 19 ~{IRQ} (oc), 21 ~{RCLR} (in), 23 SQW (out), 24 VCC (power)

## DS1302
designator U?
Trickle Charge Timekeeping Chip; PackageDocument: 1999; Published: 13-Oct-2000; LatestRevisionDate: 06-Jun-2005; LatestRevisionNote: Stylized 3D Model Added.; DatasheetDocument: 2-Jul-1999; PackageReference: DIP8; Publisher: Altium Limited; ComponentLink1Description: Manufacturer Link; ComponentLink1URL: http://www.maxim-ic.com/; ComponentLink2Description: Datasheet; ComponentLink2URL: http://pdfserv.maxim-ic.com/en/ds/DS1302.pdf
footprint DIP8 (DIP; 8 Leads; Row Spacing 7.62 mm; Pitch 2.54 mm)
3D model DIP8 (DIP; 8 Leads; Row Spacing 7.62 mm; Pitch 2.54 mm)
pins: 1 VCC2 (power), 2 X1 (in), 3 X2 (in), 4 GND (power), 5 ~{RST} (in), 6 I/O (io), 7 SCLK (in), 8 VCC1 (power)

## DS1302N
designator U?
Trickle Charge Timekeeping Chip; PackageDocument: 1999; Published: 13-Oct-2000; LatestRevisionDate: 06-Jun-2005; LatestRevisionNote: Stylized 3D Model Added.; DatasheetDocument: 2-Jul-1999; PackageReference: DIP8; Publisher: Altium Limited; ComponentLink1Description: Manufacturer Link; ComponentLink1URL: http://www.maxim-ic.com/; ComponentLink2Description: Datasheet; ComponentLink2URL: http://pdfserv.maxim-ic.com/en/ds/DS1302.pdf; ComponentLink3Description: Discontinuation Notice; ComponentLink3URL: http://www.maxim-ic.com/qa/pdfs/non-obsolescence-letter.pdf
footprint DIP8 (DIP; 8 Leads; Row Spacing 7.62 mm; Pitch 2.54 mm)
3D model DIP8 (DIP; 8 Leads; Row Spacing 7.62 mm; Pitch 2.54 mm)
pins: 1 VCC2 (power), 2 X1 (in), 3 X2 (in), 4 GND (power), 5 ~{RST} (in), 6 I/O (io), 7 SCLK (in), 8 VCC1 (power)

## DS1302S
designator U?
Trickle Charge Timekeeping Chip; PackageDocument: 1994; Published: 13-Oct-2000; LatestRevisionDate: 06-Jun-2005; LatestRevisionNote: Stylized 3D Model Added.; DatasheetDocument: 2-Jul-1999; PackageReference: SOIC8WA; Publisher: Altium Limited; ComponentLink1Description: Manufacturer Link; ComponentLink1URL: http://www.maxim-ic.com/; ComponentLink2Description: Datasheet; ComponentLink2URL: http://pdfserv.maxim-ic.com/en/ds/DS1302.pdf; ComponentLink3Description: Discontinuation Notice; ComponentLink3URL: http://www.maxim-ic.com/qa/pdfs/non-obsolescence-letter.pdf
footprint SOIC8WA (Small Outline; 8 Leads; Body Width 5.3 mm; Pitch 1.27 mm)
3D model SOIC8WA (Small Outline; 8 Leads; Body Width 5.3 mm; Pitch 1.27 mm)
pins: 1 VCC2 (power), 2 X1 (in), 3 X2 (in), 4 GND (power), 5 ~{RST} (in), 6 I/O (io), 7 SCLK (in), 8 VCC1 (power)

## DS1302SN
designator U?
Trickle Charge Timekeeping Chip; PackageDocument: 1994; Published: 13-Oct-2000; LatestRevisionDate: 06-Jun-2005; LatestRevisionNote: Stylized 3D Model Added.; DatasheetDocument: 2-Jul-1999; PackageReference: SOIC8WA; Publisher: Altium Limited; ComponentLink1Description: Manufacturer Link; ComponentLink1URL: http://www.maxim-ic.com/; ComponentLink2Description: Datasheet; ComponentLink2URL: http://pdfserv.maxim-ic.com/en/ds/DS1302.pdf; ComponentLink3Description: Discontinuation Notice; ComponentLink3URL: http://www.maxim-ic.com/qa/pdfs/non-obsolescence-letter.pdf
footprint SOIC8WA (Small Outline; 8 Leads; Body Width 5.3 mm; Pitch 1.27 mm)
3D model SOIC8WA (Small Outline; 8 Leads; Body Width 5.3 mm; Pitch 1.27 mm)
pins: 1 VCC2 (power), 2 X1 (in), 3 X2 (in), 4 GND (power), 5 ~{RST} (in), 6 I/O (io), 7 SCLK (in), 8 VCC1 (power)

## DS1302Z
designator U?
Trickle Charge Timekeeping Chip; PackageDocument: 1999; Published: 13-Oct-2000; LatestRevisionDate: 06-Jun-2005; LatestRevisionNote: Stylized 3D Model Added.; DatasheetDocument: 2-Jul-1999; PackageReference: SOIC8N; Publisher: Altium Limited; ComponentLink1Description: Manufacturer Link; ComponentLink1URL: http://www.maxim-ic.com/; ComponentLink2Description: Datasheet; ComponentLink2URL: http://pdfserv.maxim-ic.com/en/ds/DS1302.pdf; ComponentLink3Description: Discontinuation Notice; ComponentLink3URL: http://www.maxim-ic.com/qa/pdfs/non-obsolescence-letter.pdf
footprint SOIC8N (Small Outline; 8 Leads; Body Width 3.9 mm; Pitch 1.27 mm)
3D model SOIC8N (Small Outline; 8 Leads; Body Width 3.9 mm; Pitch 1.27 mm)
pins: 1 VCC2 (power), 2 X1 (in), 3 X2 (in), 4 GND (power), 5 ~{RST} (in), 6 I/O (io), 7 SCLK (in), 8 VCC1 (power)

## DS1302ZN
designator U?
Trickle Charge Timekeeping Chip; PackageDocument: 1999; Published: 13-Oct-2000; LatestRevisionDate: 06-Jun-2005; LatestRevisionNote: Stylized 3D Model Added.; DatasheetDocument: 2-Jul-1999; PackageReference: SOIC8N; Publisher: Altium Limited; ComponentLink1Description: Manufacturer Link; ComponentLink1URL: http://www.maxim-ic.com/; ComponentLink2Description: Datasheet; ComponentLink2URL: http://pdfserv.maxim-ic.com/en/ds/DS1302.pdf; ComponentLink3Description: Discontinuation Notice; ComponentLink3URL: http://www.maxim-ic.com/qa/pdfs/non-obsolescence-letter.pdf
footprint SOIC8N (Small Outline; 8 Leads; Body Width 3.9 mm; Pitch 1.27 mm)
3D model SOIC8N (Small Outline; 8 Leads; Body Width 3.9 mm; Pitch 1.27 mm)
pins: 1 VCC2 (power), 2 X1 (in), 3 X2 (in), 4 GND (power), 5 ~{RST} (in), 6 I/O (io), 7 SCLK (in), 8 VCC1 (power)

## DS1305
designator U?
Serial Alarm Real-Time Clock; PackageDocument: 1999; Note: Pin number 5 is Not Connected (NC); Published: 13-Oct-2000; LatestRevisionDate: 06-Jun-2005; LatestRevisionNote: Stylized 3D Model Added.; DatasheetDocument: 10-Aug-1999; PackageReference: DIP16; Publisher: Altium Limited; ComponentLink1Description: Manufacturer Link; ComponentLink1URL: http://www.maxim-ic.com/; ComponentLink2Description: Datasheet; ComponentLink2URL: http://pdfserv.maxim-ic.com/en/ds/DS1305.pdf; ComponentLink3Description: Discontinuation Notice; ComponentLink3URL: http://www.maxim-ic.com/qa/pdfs/non-obsolescence-letter.pdf
footprint DIP16 (DIP; 16 Leads; Row Spacing 7.62 mm; Pitch 2.54 mm)
3D model DIP16 (DIP; 16 Leads; Row Spacing 7.62 mm; Pitch 2.54 mm)
pins: 1 VCC2 (power), 2 VBAT (power), 3 X1 (in), 4 X2 (in), 5 NC, 6 ~{INT0} (out), 7 ~{INT1} (out), 8 GND (power), 9 SERMODE (in), 10 CE (in), 11 SCLK (in), 12 SDI (in), 13 SDO (out), 14 VCCIF (power), 15 ~{PF} (out), 16 VCC1 (power)

## DS1305E
designator U?
Serial Alarm Real-Time Clock; Note: Pin numbers 4, 6, 8, 13 and 19 are Not Connected (NC); Published: 13-Oct-2000; LatestRevisionDate: 06-Jun-2005; LatestRevisionNote: Stylized 3D Model Added.; DatasheetDocument: 10-Aug-1999; PackageReference: TSSOP20; Publisher: Altium Limited; ComponentLink1Description: Manufacturer Link; ComponentLink1URL: http://www.maxim-ic.com/; ComponentLink2Description: Datasheet; ComponentLink2URL: http://pdfserv.maxim-ic.com/en/ds/DS1305.pdf; ComponentLink3Description: Discontinuation Notice; ComponentLink3URL: http://www.maxim-ic.com/qa/pdfs/non-obsolescence-letter.pdf
footprint TSSOP20 (Shrink Small Outline; 20 Leads; Body Width 4.4 mm; Pitch 0.65 mm)
3D model TSSOP20 (Shrink Small Outline; 20 Leads; Body Width 4.4 mm; Pitch 0.65 mm)
pins: 1 VCC2 (power), 2 VBAT (power), 3 X1 (in), 4 NC, 5 X2 (in), 6 NC, 7 ~{INT0} (out), 8 NC, 9 ~{INT1} (out), 10 GND (power), 11 SERMODE (in), 12 CE (in), 13 NC, 14 SCLK (in), 15 SDI (in), 16 SDO (out), 17 VCCIF (power), 18 ~{PF} (out), 19 NC, 20 VCC1 (power)

## DS1305EN
designator U?
Serial Alarm Real-Time Clock; Note: Pin numbers 4, 6, 8, 13 and 19 are Not Connected (NC); Published: 13-Oct-2000; LatestRevisionDate: 06-Jun-2005; LatestRevisionNote: Stylized 3D Model Added.; DatasheetDocument: 10-Aug-1999; PackageReference: TSSOP20; Publisher: Altium Limited; ComponentLink1Description: Manufacturer Link; ComponentLink1URL: http://www.maxim-ic.com/; ComponentLink2Description: Datasheet; ComponentLink2URL: http://pdfserv.maxim-ic.com/en/ds/DS1305.pdf; ComponentLink3Description: Discontinuation Notice; ComponentLink3URL: http://www.maxim-ic.com/qa/pdfs/non-obsolescence-letter.pdf
footprint TSSOP20 (Shrink Small Outline; 20 Leads; Body Width 4.4 mm; Pitch 0.65 mm)
3D model TSSOP20 (Shrink Small Outline; 20 Leads; Body Width 4.4 mm; Pitch 0.65 mm)
pins: 1 VCC2 (power), 2 VBAT (power), 3 X1 (in), 4 NC, 5 X2 (in), 6 NC, 7 ~{INT0} (out), 8 NC, 9 ~{INT1} (out), 10 GND (power), 11 SERMODE (in), 12 CE (in), 13 NC, 14 SCLK (in), 15 SDI (in), 16 SDO (out), 17 VCCIF (power), 18 ~{PF} (out), 19 NC, 20 VCC1 (power)

## DS1305N
designator U?
Serial Alarm Real-Time Clock; PackageDocument: 1999; Note: Pin number 5 is Not Connected (NC); Published: 13-Oct-2000; LatestRevisionDate: 06-Jun-2005; LatestRevisionNote: Stylized 3D Model Added.; DatasheetDocument: 10-Aug-1999; PackageReference: DIP16; Publisher: Altium Limited; ComponentLink1Description: Manufacturer Link; ComponentLink1URL: http://www.maxim-ic.com/; ComponentLink2Description: Datasheet; ComponentLink2URL: http://pdfserv.maxim-ic.com/en/ds/DS1305.pdf; ComponentLink3Description: Discontinuation Notice; ComponentLink3URL: http://www.maxim-ic.com/qa/pdfs/non-obsolescence-letter.pdf
footprint DIP16 (DIP; 16 Leads; Row Spacing 7.62 mm; Pitch 2.54 mm)
3D model DIP16 (DIP; 16 Leads; Row Spacing 7.62 mm; Pitch 2.54 mm)
pins: 1 VCC2 (power), 2 VBAT (power), 3 X1 (in), 4 X2 (in), 5 NC, 6 ~{INT0} (out), 7 ~{INT1} (out), 8 GND (power), 9 SERMODE (in), 10 CE (in), 11 SCLK (in), 12 SDI (in), 13 SDO (out), 14 VCCIF (power), 15 ~{PF} (out), 16 VCC1 (power)

## DS1306
designator U?
Serial Alarm Real-Time Clock; PackageDocument: 1999; Published: 13-Oct-2000; LatestRevisionDate: 06-Jun-2005; LatestRevisionNote: Stylized 3D Model Added.; DatasheetDocument: 20-Aug-1999; PackageReference: DIP16; Publisher: Altium Limited; ComponentLink1Description: Manufacturer Link; ComponentLink1URL: http://www.maxim-ic.com/; ComponentLink2Description: Datasheet; ComponentLink2URL: http://pdfserv.maxim-ic.com/en/ds/DS1306.pdf; ComponentLink3Description: Discontinuation Notice; ComponentLink3URL: http://www.maxim-ic.com/qa/pdfs/non-obsolescence-letter.pdf
footprint DIP16 (DIP; 16 Leads; Row Spacing 7.62 mm; Pitch 2.54 mm)
3D model DIP16 (DIP; 16 Leads; Row Spacing 7.62 mm; Pitch 2.54 mm)
pins: 1 VCC2 (power), 2 VBAT (power), 3 X1 (in), 4 X2 (in), 5 ~{INT0} (out), 6 ~{INT1} (out), 7 1Hz (out), 8 GND (power), 9 SERMODE (in), 10 CE (in), 11 SCLK (in), 12 SDI (in), 13 SDO (out), 14 VCCIF (power), 15 32KHz (out), 16 VCC1 (power)

## DS1306N
designator U?
Serial Alarm Real-Time Clock; PackageDocument: 1999; Published: 13-Oct-2000; LatestRevisionDate: 06-Jun-2005; LatestRevisionNote: Stylized 3D Model Added.; DatasheetDocument: 20-Aug-1999; PackageReference: DIP16; Publisher: Altium Limited; ComponentLink1Description: Manufacturer Link; ComponentLink1URL: http://www.maxim-ic.com/; ComponentLink2Description: Datasheet; ComponentLink2URL: http://pdfserv.maxim-ic.com/en/ds/DS1306.pdf; ComponentLink3Description: Discontinuation Notice; ComponentLink3URL: http://www.maxim-ic.com/qa/pdfs/non-obsolescence-letter.pdf
footprint DIP16 (DIP; 16 Leads; Row Spacing 7.62 mm; Pitch 2.54 mm)
3D model DIP16 (DIP; 16 Leads; Row Spacing 7.62 mm; Pitch 2.54 mm)
pins: 1 VCC2 (power), 2 VBAT (power), 3 X1 (in), 4 X2 (in), 5 ~{INT0} (out), 6 ~{INT1} (out), 7 1Hz (out), 8 GND (power), 9 SERMODE (in), 10 CE (in), 11 SCLK (in), 12 SDI (in), 13 SDO (out), 14 VCCIF (power), 15 32KHz (out), 16 VCC1 (power)

## DS1307
designator U?
64 X 8 Serial Real-Time Clock; PackageDocument: 1999; Published: 13-Oct-2000; LatestRevisionDate: 06-Jun-2005; LatestRevisionNote: Stylized 3D Model Added.; DatasheetDocument: 10-Aug-1999; PackageReference: DIP8; Publisher: Altium Limited; ComponentLink1Description: Manufacturer Link; ComponentLink1URL: http://www.maxim-ic.com/; ComponentLink2Description: Datasheet; ComponentLink2URL: http://pdfserv.maxim-ic.com/en/ds/DS1307.pdf; ComponentLink3Description: Discontinuation Notice; ComponentLink3URL: http://www.maxim-ic.com/qa/pdfs/non-obsolescence-letter.pdf
footprint DIP8 (DIP; 8 Leads; Row Spacing 7.62 mm; Pitch 2.54 mm)
3D model DIP8 (DIP; 8 Leads; Row Spacing 7.62 mm; Pitch 2.54 mm)
pins: 1 X1 (in), 2 X2 (in), 3 VBAT (power), 4 GND (power), 5 SDA (io), 6 SCL (in), 7 SQW/OUT (out), 8 VCC (power)